# Altium schematic symbol library Schlib1.SchLib: 52 symbols (part 2 of 2)
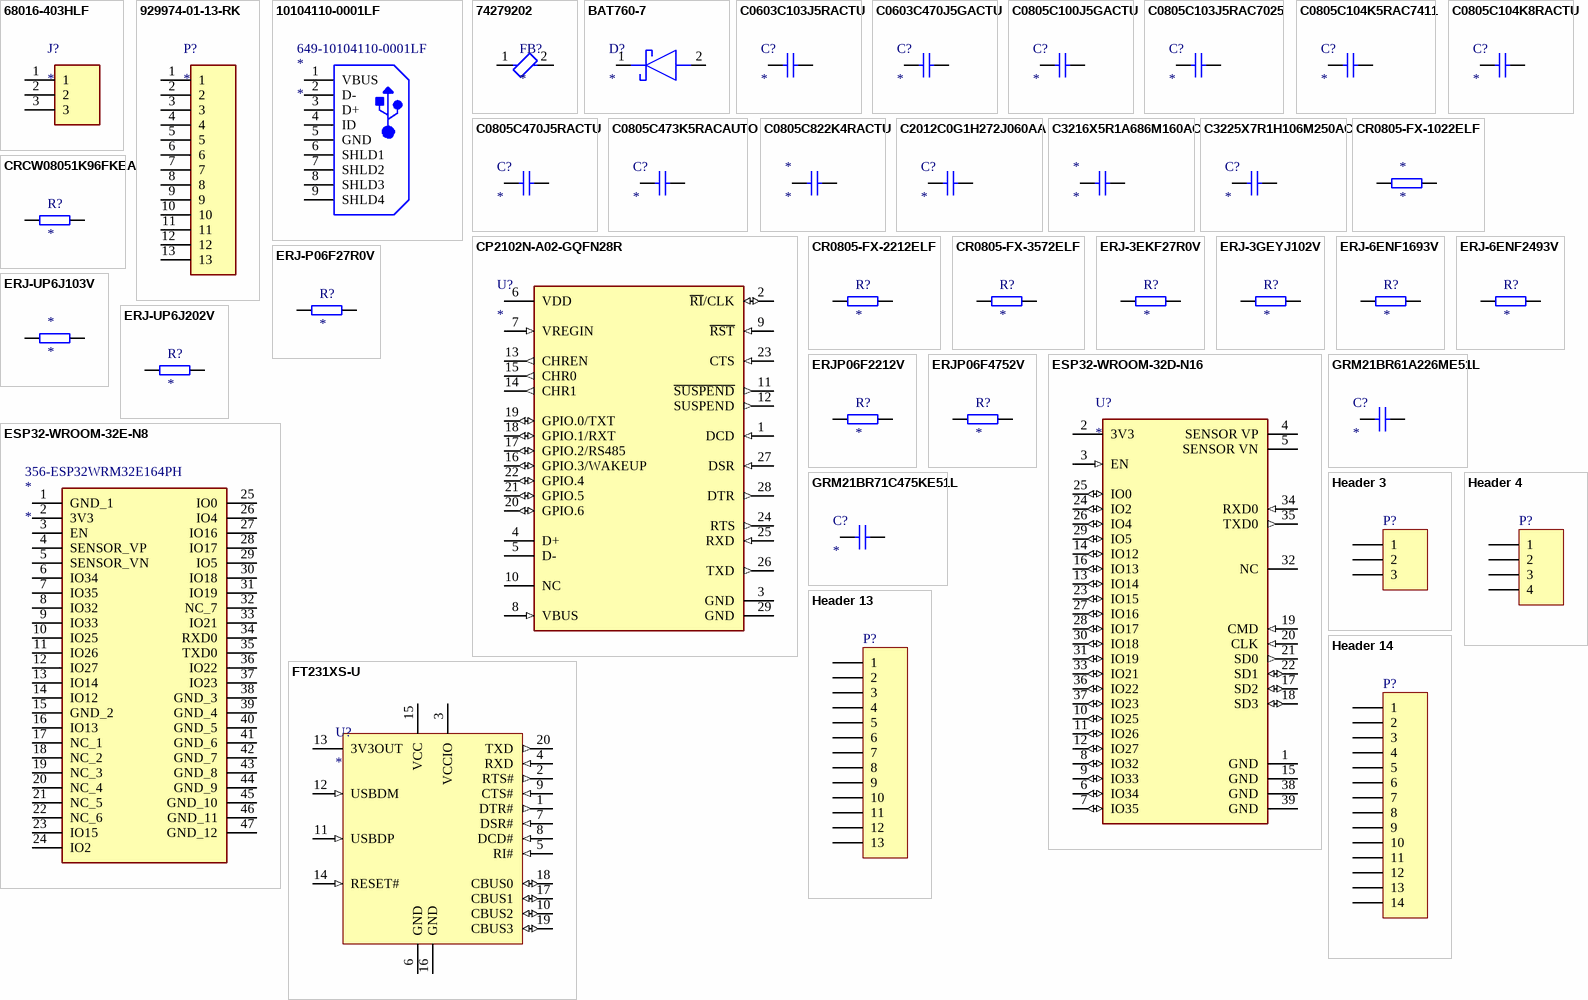
[diagram p2: symbols 68016-403HLF to Header 14]

## ERJ-6ENF2493V
designator R?
Res Thick Film 0805 249K Ohm 1% 1/8W ±100ppm/°C Molded SMD Punched Carrier T/R; Manufacturer: Panasonic; Manufacturer Part Number: ERJ-6ENF2493V; Resistance: 249kR; Voltage Rating: 150V; Power Rating: 125mW; Supplier 1: Mouser; RoHS: Yes; Category: Chip SMD Resistors; Stock 1: 22124; Pricing 1: 1=0,11000, 10=0,08300, 50=0,08300, 100=0,03200, 1000=0,01400, 10000=0,01000 (USD); Mount: Surface Mount; Case/Package: 0805; Contact Plating: Tin; Case Code (Imperial): 0805; Case Code (Metric): 2012; Min Operating Temperature: -55°C; Max Operating Temperature: 155°C; Tolerance: 1%; Resistor Type: Thick Film; Temperature Coefficient: 100ppm/°C; Packaging: Tape and Reel; Package Quantity: 5000; Number of Terminations: 2; Termination: SMD/SMT; Max Power Dissipation: 125mW; Voltage Rating (DC): 150V; Series: ERJ; Resistance Tolerance: 1%; Construction: Rectangular; Technology: THICK FILM; Length: 2mm; Width: 1.2mm; Height: 0.6mm; Depth: 1.25mm; Radiation Hardening: No; REACH SVHC: Unknown; Military Standard: Not; Lead Free: Lead Free; RoHS Compliant: Yes; ComponentLink1URL: https://datasheet.ciiva.com/11821/0900766b80f80784-11821592.pdf?src-supplier=RSComponents; ComponentLink1Description: https://datasheet.ciiva.com/11821/0900766b80f80784-11821592.pdf?src-supplier=RSComponents; ComponentLink2URL: https://datasheet.ciiva.com/16770/70260748-16770245.pdf?src-supplier=Allied+Electronics; ComponentLink2Description: https://datasheet.ciiva.com/16770/70260748-16770245.pdf?src-supplier=Allied+Electronics; ComponentLink3URL: https://datasheet.ciiva.com/30160/aoa0000ce2-30160949.pdf?src-supplier=Onlinecomponents.com; ComponentLink3Description: https://datasheet.ciiva.com/30160/aoa0000ce2-30160949.pdf?src-supplier=Onlinecomponents.com; ComponentLink4URL: https://datasheet.ciiva.com/43460/426256-43460070.pdf?src-supplier=Farnell; ComponentLink4Description: https://datasheet.ciiva.com/43460/426256-43460070.pdf?src-supplier=Farnell; ComponentLink5URL: https://datasheet.ciiva.com/9183/aoa0000ce2-9183882.pdf?src-supplier=Avnet; ComponentLink5Description: https://datasheet.ciiva.com/9183/aoa0000ce2-9183882.pdf?src-supplier=Avnet; ComponentLink6URL: https://datasheet.ciiva.com/46377/426256-46377786.pdf?src-supplier=Element14; ComponentLink6Description: https://datasheet.ciiva.com/46377/426256-46377786.pdf?src-supplier=Element14; ComponentLink7URL: https://datasheet.ciiva.com/28692/1678782-28692523.pdf?src-supplier=Element14; ComponentLink7Description: https://datasheet.ciiva.com/28692/1678782-28692523.pdf?src-supplier=Element14; ComponentLink8URL: https://datasheet.ciiva.com/28594/1678782-28594733.pdf?src-supplier=Element14; ComponentLink8Description: https://datasheet.ciiva.com/28594/1678782-28594733.pdf?src-supplier=Element14; ComponentLink9URL: https://datasheet.ciiva.com/29927/aoa0000ce2-29927535.pdf?src-supplier=Avnet; ComponentLink9Description: https://datasheet.ciiva.com/29927/aoa0000ce2-29927535.pdf?src-supplier=Avnet; Supplier Part Number 1: 667-ERJ-6ENF2493V
footprint RESC2013X70X40LL20T20 (Chip Resistor, 2-Leads, Body 2.00x1.25mm, IPC High Density)
footprint RESC2013X70X40ML20T20 (Chip Resistor, 2-Leads, Body 2.00x1.25mm, IPC Low Density)
footprint RESC2013X70X40NL20T20 (Chip Resistor, 2-Leads, Body 2.00x1.25mm, IPC Medium Density)
pins: 1, 2

## ERJ-P06F27R0V
designator R?
Res Thick Film 0805 27 Ohm 1% 0.25W ±300ppm/°C Molded SMD Punched Carrier T/R; Manufacturer: Panasonic; Manufacturer Part Number: ERJ-P06F27R0V; Resistance: 27R; Power Rating: 500mW; Voltage Rating: 150V; Supplier 1: Mouser; RoHS: Yes; Category: Chip SMD Resistors; Stock 1: 25086; Pricing 1: 1=0,20000, 10=0,16900, 50=0,16900, 100=0,06700, 1000=0,02800, 10000=0,02300 (USD); Mount: Surface Mount; Case/Package: 0805; Number of Pins: 2; Contact Plating: Tin; Case Code (Imperial): 0805; Case Code (Metric): 2012; Weight: 0.000194oz; Min Operating Temperature: -55°C; Max Operating Temperature: 155°C; Tolerance: 1%; Resistor Type: Thick Film; Temperature Coefficient: 300ppm/°C; Packaging: Tape and Reel; Termination: SMD/SMT; Voltage Rating (DC): 150V; Length: 2mm; Width: 1.2mm; Height: 0.6mm; Depth: 1.25mm; Radiation Hardening: No; REACH SVHC: No SVHC; Military Standard: Not; RoHS Compliant: Yes; ComponentLink1URL: https://datasheet.ciiva.com/11810/0900766b812cb812-11810836.pdf?src-supplier=RSComponents; ComponentLink1Description: https://datasheet.ciiva.com/11810/0900766b812cb812-11810836.pdf?src-supplier=RSComponents; ComponentLink2URL: https://datasheet.ciiva.com/48426/erjp-series-eng-tds-48426807.pdf?src-supplier=Distrelec; ComponentLink2Description: https://datasheet.ciiva.com/48426/erjp-series-eng-tds-48426807.pdf?src-supplier=Distrelec; ComponentLink3URL: https://datasheet.ciiva.com/5915/1801181-5915438.pdf?src-supplier=Farnell; ComponentLink3Description: https://datasheet.ciiva.com/5915/1801181-5915438.pdf?src-supplier=Farnell; ComponentLink4URL: https://datasheet.ciiva.com/7891/1801181-7891423.pdf?src-supplier=Element14; ComponentLink4Description: https://datasheet.ciiva.com/7891/1801181-7891423.pdf?src-supplier=Element14; ComponentLink5URL: https://datasheet.ciiva.com/5915/1801181-5915437.pdf?src-supplier=Farnell; ComponentLink5Description: https://datasheet.ciiva.com/5915/1801181-5915437.pdf?src-supplier=Farnell; ComponentLink6URL: https://datasheet.ciiva.com/24125/aoa0000ce4-64075-24125050.pdf?src-supplier=Mouser; ComponentLink6Description: https://datasheet.ciiva.com/24125/aoa0000ce4-64075-24125050.pdf?src-supplier=Mouser; ComponentLink7URL: https://datasheet.ciiva.com/9297/aoa0000ce4-9297918.pdf?src-supplier=Avnet; ComponentLink7Description: https://datasheet.ciiva.com/9297/aoa0000ce4-9297918.pdf?src-supplier=Avnet; Supplier Part Number 1: 667-ERJ-P06F27R0V
footprint RES_ERJP06F27R0V
pins: 1, 2

## ERJ-UP6J103V
designator *
Res 10K Ohm 5% 1/2W 0805; Manufacturer: Panasonic; Manufacturer Part Number: ERJ-UP6J103V; Supplier 1: Mouser; RoHS: No; Category: Chip SMD Resistors; Stock 1: 46150; Pricing 1: 1=0,16000, 10=0,11900, 50=0,11900, 100=0,05800, 1000=0,02500, 10000=0,02100 (USD); Supplier Part Number 1: 667-ERJ-UP6J103V; Resistance: 10K
footprint RESC2012X70N
pins: 1, 2

## ERJ-UP6J202V
designator R?
Res 2K Ohm 5% 1/2W 0805; Manufacturer: Panasonic; Manufacturer Part Number: ERJ-UP6J202V; Supplier 1: Mouser; RoHS: No; Category: Chip SMD Resistors; Stock 1: 17571; Pricing 1: 1=0,16000, 10=0,11900, 50=0,11900, 100=0,05800, 250=0,05200, 500=0,04900, 1000=0,02500, 2500=0,02200, 5000=0,02000, 10000=0,01900 (USD); Supplier Part Number 1: 667-ERJ-UP6J202V; Resistance: 2K
footprint RESC2012X70N
pins: 1, 2

## ERJP06F2212V
designator R?
Res Thick Film 0805 22.1K Ohm 1% 0.25W ±100ppm/°C Molded SMD Punched Carrier T/R; Manufacturer: Panasonic; Manufacturer Part Number: ERJP06F2212V; Resistance: 22.1kR; Power Rating: 500mW; Voltage Rating: 400V; Supplier 1: Mouser; RoHS: Yes; Category: Chip SMD Resistors; Stock 1: 3813; Pricing 1: 1=0,18000, 10=0,15400, 50=0,15400, 100=0,06100, 1000=0,02600, 10000=0,02100 (USD); Mount: Surface Mount; Case/Package: 0805; Case Code (Imperial): 0805; Case Code (Metric): 2012; Weight: 0.000194oz; Min Operating Temperature: -55°C; Max Operating Temperature: 155°C; Tolerance: 1%; Packaging: Tape and Reel; Package Quantity: 5000; Resistor Type: Thick Film; Termination: SMD/SMT; Temperature Coefficient: 100ppm/°C; Voltage Rating (DC): 400V; Length: 2mm; Width: 1.2mm; Height: 0.6mm; Depth: 1.25mm; REACH SVHC: No SVHC; RoHS Compliant: Yes; ComponentLink1URL: https://datasheet.ciiva.com/22729/1801181-22729931.pdf?src-supplier=Farnell; ComponentLink1Description: https://datasheet.ciiva.com/22729/1801181-22729931.pdf?src-supplier=Farnell; ComponentLink2URL: https://datasheet.ciiva.com/22681/1801181-22681386.pdf?src-supplier=Element14; ComponentLink2Description: https://datasheet.ciiva.com/22681/1801181-22681386.pdf?src-supplier=Element14; ComponentLink3URL: https://datasheet.ciiva.com/46382/1801181-46382634.pdf?src-supplier=Element14; ComponentLink3Description: https://datasheet.ciiva.com/46382/1801181-46382634.pdf?src-supplier=Element14; Supplier Part Number 1: 667-ERJ-P06F2212V
footprint ERJP06_(0805)
pins: 1, 2

## ERJP06F4752V
designator R?
Res Thick Film 0805 47.5K Ohm 1% 0.25W ±100ppm/°C Molded SMD Punched Carrier T/R; Manufacturer: Panasonic; Manufacturer Part Number: ERJP06F4752V; Resistance: 47.5kR; Power Rating: 500mW; Voltage Rating: 400V; Supplier 1: Mouser; RoHS: Yes; Category: Chip SMD Resistors; Stock 1: 13819; Pricing 1: 1=0,18000, 10=0,15400, 50=0,15400, 100=0,07200, 1000=0,06600, 10000=0,01900 (USD); Mount: Surface Mount; Case/Package: 0805; Case Code (Imperial): 0805; Case Code (Metric): 2012; Weight: 0.000194oz; Min Operating Temperature: -55°C; Max Operating Temperature: 155°C; Tolerance: 1%; Packaging: Tape and Reel; Package Quantity: 5000; Resistor Type: Thick Film; Termination: SMD/SMT; Temperature Coefficient: 100ppm/°C; Voltage Rating (DC): 400V; Length: 2mm; Width: 1.2mm; Height: 0.6mm; Depth: 1.25mm; REACH SVHC: No SVHC; RoHS Compliant: Yes; ComponentLink1URL: https://datasheet.ciiva.com/22730/1801181-22730139.pdf?src-supplier=Farnell; ComponentLink1Description: https://datasheet.ciiva.com/22730/1801181-22730139.pdf?src-supplier=Farnell; ComponentLink2URL: https://datasheet.ciiva.com/22672/1801181-22672939.pdf?src-supplier=Element14; ComponentLink2Description: https://datasheet.ciiva.com/22672/1801181-22672939.pdf?src-supplier=Element14; ComponentLink3URL: https://datasheet.ciiva.com/46382/1801181-46382887.pdf?src-supplier=Element14; ComponentLink3Description: https://datasheet.ciiva.com/46382/1801181-46382887.pdf?src-supplier=Element14; ComponentLink4URL: https://datasheet.ciiva.com/24205/aoa0000ce4-64075-24205765.pdf?src-supplier=Mouser; ComponentLink4Description: https://datasheet.ciiva.com/24205/aoa0000ce4-64075-24205765.pdf?src-supplier=Mouser; Supplier Part Number 1: 667-ERJ-P06F4752V
footprint ERJP06_(0805)
pins: 1, 2

## ESP32-WROOM-32D-N16
designator U?
Bluetooth and Wi-Fi Module / 2.4GHz to 2.5GHz 2.7V to 3.6V 16MB Flash / 38-Pin SMD Module; Manufacturer: Espressif Systems; Manufacturer Part Number: ESP32-WROOM-32D-N16; Description: Rx Txrx Mod Wifi Trace Ant SMD; Supplier 1: Mouser; RoHS: No; Category: Uncategorized; Stock 1: 6841; Pricing 1: 1=4,65000, 10=4,65000, 50=4,65000, 100=4,65000, 1000=4,65000, 10000=4,65000 (USD); Supplier Part Number 1: 356-ES32WROOM32D16MB
footprint FP-ESP32-WROOM-32D_16MB-MFG
pins: 1 GND (power), 2 3V3 (power), 3 EN (in), 4 SENSOR VP, 5 SENSOR VN, 6 IO34 (io), 7 IO35 (io), 8 IO32 (io), 9 IO33 (io), 10 IO25 (io), 11 IO26 (io), 12 IO27 (io), 13 IO14 (io), 14 IO12 (io), 15 GND (power), 16 IO13 (io), 17 SD2 (io), 18 SD3 (io), 19 CMD (in), 20 CLK (in), 21 SD0 (out), 22 SD1 (io), 23 IO15 (io), 24 IO2 (io), 25 IO0 (io), 26 IO4 (io), 27 IO16 (io), 28 IO17 (io), 29 IO5 (io), 30 IO18 (io), 31 IO19 (io), 32 NC, 33 IO21 (io), 34 RXD0 (in), 35 TXD0 (out), 36 IO22 (io), 37 IO23 (io), 38 GND (power), 39 GND (power)

## ESP32-WROOM-32E-N8
designator *  Supplier Part Number 1: 356-ESP32WRM32E164PH
Manufacturer: Espressif Systems; Manufacturer Part Number: ESP32-WROOM-32E-N8; Supplier 1: Mouser; RoHS: No; Category: Uncategorized; Stock 1: 1560; Pricing 1: 1=3,30000, 10=3,30000, 50=3,30000, 100=3,30000, 1000=3,30000, 10000=3,30000 (USD)
footprint ESP32WROOM32EN8
pins: 1 GND_1, 2 3V3, 3 EN, 4 SENSOR_VP, 5 SENSOR_VN, 6 IO34, 7 IO35, 8 IO32, 9 IO33, 10 IO25, 11 IO26, 12 IO27, 13 IO14, 14 IO12, 15 GND_2, 16 IO13, 17 NC_1, 18 NC_2, 19 NC_3, 20 NC_4, 21 NC_5, 22 NC_6, 23 IO15, 24 IO2, 25 IO0, 26 IO4, 27 IO16, 28 IO17, 29 IO5, 30 IO18, 31 IO19, 32 NC_7, 33 IO21, 34 RXD0, 35 TXD0, 36 IO22, 37 IO23, 38 GND_3, 39 GND_4, 40 GND_5, 41 GND_6, 42 GND_7, 43 GND_8, 44 GND_9, 45 GND_10, 46 GND_11, 47 GND_12

## FT231XS-U
designator U?
FT231XS-U, Usb Controller, 3MBD, Usb 1.1, Usb 2.0, 5 V, 20-PIN SSOP; Manufacturer: FTDI; Number of Channels: 1; Operating Supply Voltage: 5V; Max Supply Voltage: 5.5V; Min Supply Voltage: 2.97V; Data Rate: 3Mbps; ESD Protection: Yes; Supplier 1: Mouser; Manufacturer Part Number: FT231XS-U; RoHS: Yes; Category: Interface ICs; Stock 1: 294; Pricing 1: 1=2,34000, 10=2,34000, 25=2,27000, 50=2,27000, 100=2,27000, 116=2,20000, 1000=1,82000, 10000=1,75000 (USD); Mount: Surface Mount; Case/Package: SSOP; Number of Pins: 20; Min Operating Temperature: -40°C; Max Operating Temperature: 85°C; Packaging: Rail/Tube; Package Quantity: 58; Number of Transceivers: 1; Series: *; Length: 8.74mm; Width: 3.99mm; Height: 1.5mm; Radiation Hardening: No; Lead Free: Lead Free; RoHS Compliant: Yes; ComponentLink1URL: https://datasheet.ciiva.com/48909/70403933-48909079.pdf?src-supplier=Allied+Electronics; ComponentLink1Description: https://datasheet.ciiva.com/48909/70403933-48909079.pdf?src-supplier=Allied+Electronics; ComponentLink2URL: https://datasheet.ciiva.com/15150/getdatasheetpartid-643513-15150507.pdf?src-supplier=Verical; ComponentLink2Description: https://datasheet.ciiva.com/15150/getdatasheetpartid-643513-15150507.pdf?src-supplier=Verical; ComponentLink3URL: https://datasheet.ciiva.com/16379/ds-ft231x-16379279.pdf?src-supplier=Future+Electronics; ComponentLink3Description: https://datasheet.ciiva.com/16379/ds-ft231x-16379279.pdf?src-supplier=Future+Electronics; Supplier Part Number 1: 895-FT231XS-U
footprint SSOP-20_L (SOP, 20-Leads, Body 8.6x3.9mm, Pitch 0.635mm, IPC High Density)
footprint SSOP-20_M (SOP, 20-Leads, Body 8.6x3.9mm, Pitch 0.635mm, IPC Low Density)
footprint SSOP-20_N (SOP, 20-Leads, Body 8.6x3.9mm, Pitch 0.635mm, IPC Medium Density)
pins: 1 DTR# (out) "Data Terminal Ready Control Output / Handshake Signal.", 2 RTS# (out) "Request to Send Control Output / Handshake Signal.", 3 VCCIO (power) "1V8 -3V3 supply for the IO cells.", 4 RXD (in) "Receiving Asynchronous Data Input.", 5 RI# (in) "Ring Indicator input for remote wake up.", 6 GND (power) "0V Ground input.", 7 DSR# (in) "Data Set Ready Control Input / Handshake Signal.", 8 DCD# (in) "Data Carrier Detect Control Input.", 9 CTS# (in) "Clear To Send Control Input / Handshake Signal.", 10 CBUS2 (io) "Configurable CBUS I/O Pin. Function of this pin is configured in the device MTP memory. The default configuration is TXLED#.", 11 USBDP (in) "USB Data Signal Plus.", 12 USBDM (in) "USB Data Signal Minus.", 13 3V3OUT (power) "3V3 output at 50mA. May be used to power VCCIO. When VCC is 3V3, pin 13 is an input pin.", 14 RESET# (in) "Reset input (active low).", 15 VCC (power) "5 V (or 3V3) supply to IC.", 16 GND (power) "0V Ground input.", 17 CBUS1 (io) "Configurable CBUS I/O Pin. Function of this pin is configured in the device MTP memory. The default configuration is RXLED#.", 18 CBUS0 (io) "Configurable CBUS I/O Pin. Function of this pin is configured in the device MTP memory. The default configuration is TXDEN.", 19 CBUS3 (io) "Configurable CBUS I/O Pin. Function of this pin is configured in the device MTP memory. The default configuration is SLEEP#.", 20 TXD (out) "Transmit Asynchronous Data Output."

## GRM21BR61A226ME51L
designator C?
贴片电容（MLCC） 22µF ±20% 10V X5R 0805; Manufacturer: Murata; Manufacturer Part Number: GRM21BR61A226ME51L; Capacitance: 22uF; Supplier 1: Mouser; RoHS: Yes; Category: Ceramic Capacitors; Stock 1: 1508057; Pricing 1: 1=0,28000, 10=0,19200, 50=0,19200, 100=0,10900, 500=0,07700, 1000=0,06800, 3000=0,06300, 6000=0,05900, 10000=0,05900 (USD); Mount: Surface Mount; Case/Package: 0805; Case Code (Metric): 2012; Case Code (Imperial): 0805; Weight: 0.000335oz; Min Operating Temperature: -55°C; Max Operating Temperature: 85°C; Tolerance: 20%; Dielectric: X5R; Packaging: Tape and Reel; Voltage Rating: 10V; Termination: SMD/SMT; Voltage Rating (DC): 10V; Package Quantity: 3000; Length: 2mm; Width: 0.049inch; Height: 1.25mm; Thickness: 0.055inch; Depth: 1.25mm; Radiation Hardening: No; REACH SVHC: No SVHC; Lead Free: Lead Free; RoHS Compliant: Yes; ComponentLink1URL: http://www.farnell.com/datasheets/1955716.pdf?src-supplier=Farnell; ComponentLink1Description: http://www.farnell.com/datasheets/1955716.pdf?src-supplier=Farnell; ComponentLink2URL: http://www.mouser.com/ds/2/281/c02e-2905.pdf?src-supplier=Mouser; ComponentLink2Description: http://www.mouser.com/ds/2/281/c02e-2905.pdf?src-supplier=Mouser; ComponentLink3URL: http://www.farnell.com/datasheets/1955716.pdf?src-supplier=Newark; ComponentLink3Description: http://www.farnell.com/datasheets/1955716.pdf?src-supplier=Newark; ComponentLink4URL: http://www.farnell.com/datasheets/1955716.pdf?src-supplier=Element14; ComponentLink4Description: http://www.farnell.com/datasheets/1955716.pdf?src-supplier=Element14; ComponentLink5URL: http://search.murata.co.jp/Ceramy/image/img/A01X/G101/ENG/GRM21BR61A226ME51-01.pdf?src-supplier=Digi-Key; ComponentLink5Description: http://search.murata.co.jp/Ceramy/image/img/A01X/G101/ENG/GRM21BR61A226ME51-01.pdf?src-supplier=Digi-Key; ComponentLink6URL: http://psearch.en.murata.com/capacitor/product/GRM21BR61A226ME51%23.html?src-supplier=Avnet; ComponentLink6Description: http://psearch.en.murata.com/capacitor/product/GRM21BR61A226ME51%23.html?src-supplier=Avnet; Supplier Part Number 1: 81-GRM21BR61A226ME1L
footprint FP-GRM21B-0_15-IPC_A
footprint FP-GRM21B-0_15-IPC_B
footprint FP-GRM21B-0_15-IPC_C
footprint FP-GRM21B-0_15-MFG
pins: 1, 2

## GRM21BR71C475KE51L
designator C?
Cap Ceramic 4.7uF 16V X7R 10% SMD 0805 125°C Embossed Plastic T/R; Manufacturer: Murata; Manufacturer Part Number: GRM21BR71C475KE51L; Supplier 1: Mouser; RoHS: Yes; Category: Ceramic Capacitors; Stock 1: 388295; Pricing 1: 1=0,19000, 10=0,13400, 50=0,13400, 100=0,06400, 500=0,04500, 1000=0,03700, 3000=0,03500, 6000=0,03300, 10000=0,03300 (USD); Case/Package: 0805; Capacitance: 4.7uF; Tolerance: 10%; Dielectric: X7R; Voltage Rating (DC): 16V; Length: 2mm; Width: 1.25mm; Thickness: 1.25mm; RoHS Compliant: Yes; ComponentLink1URL: http://www.farnell.com/datasheets/2189142.pdf?src-supplier=Farnell; ComponentLink1Description: http://www.farnell.com/datasheets/2189142.pdf?src-supplier=Farnell; ComponentLink2URL: http://search.murata.co.jp/Ceramy/image/img/A01X/G101/ENG/GRM21BR71C475KE51-01.pdf?src-supplier=Digi-Key; ComponentLink2Description: http://search.murata.co.jp/Ceramy/image/img/A01X/G101/ENG/GRM21BR71C475KE51-01.pdf?src-supplier=Digi-Key; Supplier Part Number 1: 81-GRM21BR71C475KE1L
footprint FP-GRM21B-0_15-IPC_A
footprint FP-GRM21B-0_15-IPC_B
footprint FP-GRM21B-0_15-IPC_C
footprint FP-GRM21B-0_15-MFG
pins: 1, 2

## Header 3
designator P?
Header, 3-Pin; LatestRevisionDate: 17-Jul-2002; LatestRevisionNote: Re-released for DXP Platform.; Publisher: Altium Limited
footprint HDR1X3 (Connector; Header; 3 Position)
pins: 1, 2, 3

## Header 4
designator P?
Header, 4-Pin; LatestRevisionDate: 17-Jul-2002; LatestRevisionNote: Re-released for DXP Platform.; Publisher: Altium Limited
footprint HDR1X4 (Connector; Header; 4 Position)
pins: 1, 2, 3, 4

## Header 13
designator P?
Header, 13-Pin; LatestRevisionDate: 17-Jul-2002; LatestRevisionNote: Re-released for DXP Platform.; Publisher: Altium Limited
footprint HDR1X13 (Connector; Header; 13 Position)
pins: 1, 2, 3, 4, 5, 6, 7, 8, 9, 10, 11, 12, 13

## Header 14
designator P?
Header, 14-Pin; LatestRevisionDate: 17-Jul-2002; LatestRevisionNote: Re-released for DXP Platform.; Publisher: Altium Limited
footprint HDR1X14 (Connector; Header; 14 Position)
pins: 1, 2, 3, 4, 5, 6, 7, 8, 9, 10, 11, 12, 13, 14

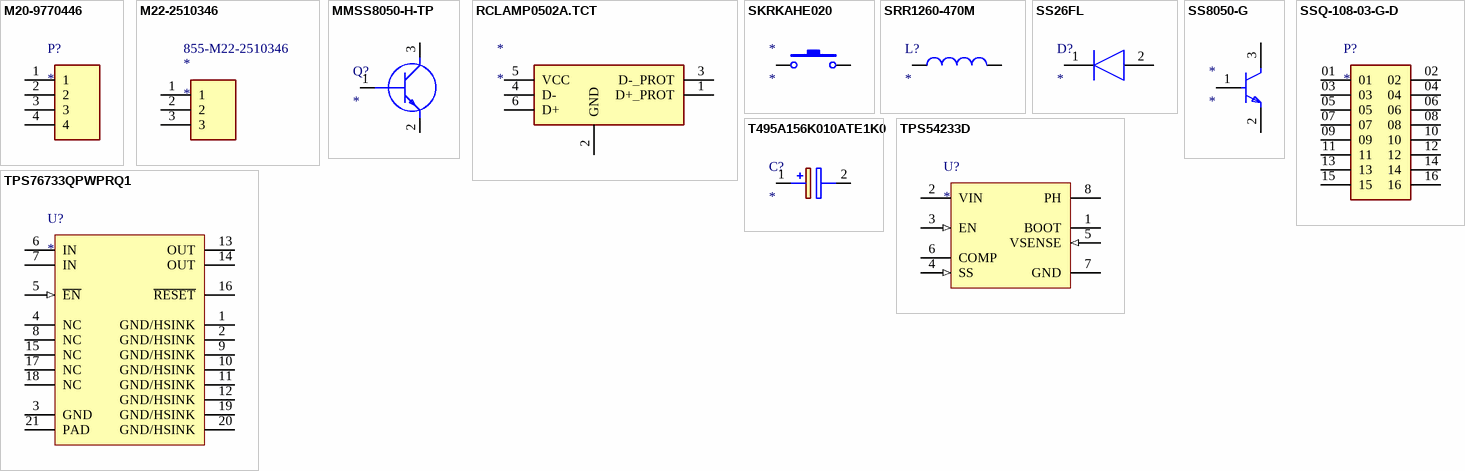
[diagram p1: symbols M20-9770446 to TPS76733QPWPRQ1]

## M20-9770446
designator P?
04 SIL VERT PIN HDR; Manufacturer: Harwin; Manufacturer Part Number: M20-9770446; Number of Contacts: 4; Gender: Male; Current Rating: 3A; Voltage Rating: 750V; Connector Type: Male Pin; Contact Resistance: 30mR; Pitch: 2.54mm; Supplier 1: Mouser; RoHS: Yes; Category: Headers and Wire Housings; Stock 1: 20888; Pricing 1: 1=0,20000, 10=0,15300, 50=0,15300, 100=0,12500, 500=0,11300, 1000=0,09100, 2000=0,08100, 10000=0,07300, 25000=0,06800, 50000=0,06600 (USD); Mount: Through Hole; Case/Package: SIL; Housing Color: Black; Contact Plating: Tin; Color: Black; Contact Material: Brass; Housing Material: Nylon; Min Operating Temperature: -40°C; Max Operating Temperature: 105°C; Termination: Solder; Number of Rows: 1; Orientation: Straight; Number of Positions: 4; Package Quantity: 1000; Packaging: Bulk; Max Current Rating: 3A; Length: 10.16mm; Contact Mating Length: 0.228inch; Depth: 2.54mm; ComponentLink1URL: https://datasheet.ciiva.com/6832/m20-977-6832936.pdf?src-supplier=Digi-Key; ComponentLink1Description: https://datasheet.ciiva.com/6832/m20-977-6832936.pdf?src-supplier=Digi-Key; Supplier Part Number 1: 855-M20-9770446
footprint HDRV4W64P0X254_1X4_1016X254X834P
pins: 1, 2, 3, 4

## M22-2510346
designator *  Supplier Part Number 1: 855-M22-2510346
2.00mm (0.079") Pitch SIL Vertical 2.4mm PC Tail Pin Header, 3.5mm mating pin height, tin, 3 contacts; Manufacturer: Harwin; Manufacturer Part Number: M22-2510346; Number of Contacts: 3; Max Current Rating: 1A; Contact Resistance: 30mR; Voltage Rating: 650V; Gender: Male; Connector Type: Male Pin; Pitch: 2mm; Supplier 1: Mouser; RoHS: Yes; Category: Headers and Wire Housings; Stock 1: 3158; Pricing 1: 1=0,24000, 10=0,18300, 50=0,18300, 100=0,14900, 1000=0,10900, 10000=0,08800 (USD); Mount: Through Hole; Case/Package: SIL; Contact Plating: Tin; Contact Material: Bronze; Color: Black; Housing Color: Black; Housing Material: Nylon; Min Operating Temperature: -55°C; Max Operating Temperature: 105°C; Number of Rows: 1; Termination: Solder; Current Rating: 1A; Package Quantity: 1000; Packaging: Bulk; Number of Positions: 3; Orientation: Straight; Series: M22; Contact Type: Male Pin; Length: 6mm; Contact Mating Length: 0.138inch; Depth: 2mm; RoHS Compliant: Yes; ComponentLink1URL: http://www.mouser.com/ds/2/181/M22-251-1134335.pdf?src-supplier=Mouser; ComponentLink1Description: http://www.mouser.com/ds/2/181/M22-251-1134335.pdf?src-supplier=Mouser; ComponentLink2URL: http://cdn.harwin.com/pdfs/M22-251.pdf?src-supplier=Digi-Key; ComponentLink2Description: http://cdn.harwin.com/pdfs/M22-251.pdf?src-supplier=Digi-Key; ComponentLink3URL: http://www.harwin.com/include/downloads/pdfs/2010PAGE109.PDF?src-supplier=Avnet; ComponentLink3Description: http://www.harwin.com/include/downloads/pdfs/2010PAGE109.PDF?src-supplier=Avnet; ComponentLink4URL: https://cdn.harwin.com/pdfs/M22-251.pdf?src-supplier=Digi-Key; ComponentLink4Description: https://cdn.harwin.com/pdfs/M22-251.pdf?src-supplier=Digi-Key
footprint HDRV3W50P0X200_1X3_600X200X525P
pins: 1, 2, 3

## MMSS8050-H-TP
designator Q?
NPN Ic=1.5A Vceo=25V hfe=120~350 fT=100MHz; Manufacturer: MCC; Manufacturer Part Number: MMSS8050-H-TP; hFE Min: 120; Max Power Dissipation: 625mW; Collector Emitter Voltage (VCEO): 500mV; Collector Base Voltage (VCBO): 40V; Emitter Base Voltage (VEBO): 5V; Max Collector Current: 1.5A; Collector Emitter Breakdown Voltage: 25V; Transition Frequency: 100MHz; Element Configuration: Single; Supplier 1: Mouser; RoHS: Yes; Category: BJTs; Stock 1: 426; Pricing 1: 1=0,21000, 10=0,17100, 50=0,17100, 100=0,09100, 500=0,06000, 1000=0,04100, 3000=0,03100, 10000=0,03100 (USD); Mount: Surface Mount; Case/Package: SOT-23; Number of Pins: 3; Min Operating Temperature: -55°C; Max Operating Temperature: 150°C; Packaging: Tape and Reel; Package Quantity: 3000; Polarity: NPN; Collector Emitter Saturation Voltage: 500mV; Max Breakdown Voltage: 25V; Gain Bandwidth Product: 100MHz; Collector-emitter Voltage-Max: 500mV; Series: -; Lead Free: Lead Free; RoHS Compliant: Yes; ComponentLink1URL: https://datasheet.ciiva.com/16291/mmss8050-255048-16291447.pdf?src-supplier=Mouser; ComponentLink1Description: https://datasheet.ciiva.com/16291/mmss8050-255048-16291447.pdf?src-supplier=Mouser; ComponentLink2URL: https://datasheet.ciiva.com/972/mmss8050sot-23-972894.pdf?src-supplier=Digi-Key; ComponentLink2Description: https://datasheet.ciiva.com/972/mmss8050sot-23-972894.pdf?src-supplier=Digi-Key; ComponentLink3URL: https://datasheet.ciiva.com/972/mmss8050sot-23-972895.pdf?src-supplier=Digi-Key; ComponentLink3Description: https://datasheet.ciiva.com/972/mmss8050sot-23-972895.pdf?src-supplier=Digi-Key; ComponentLink4URL: https://datasheet.ciiva.com/972/mmss8050sot-23-972893.pdf?src-supplier=Digi-Key; ComponentLink4Description: https://datasheet.ciiva.com/972/mmss8050sot-23-972893.pdf?src-supplier=Digi-Key; Supplier Part Number 1: 833-MMSS8050-H-TP
footprint SI2305TP
pins: 1 B, 2 E, 3 C

## RCLAMP0502A.TCT
designator *
TVS二极管 5V IPPM=3A 50W 单向; Manufacturer: Semtech; Manufacturer Part Number: RCLAMP0502A.TCT; Direction: Unidirectional; Capacitance: 0.9pF; Number of Channels: 2; Reverse Breakdown Voltage: 6V; Number of Elements: 1; Clamping Voltage: 18V; Power Line Protection: Yes; Peak Pulse Current: 3A; Test Current: 1mA; Max Reverse Leakage Current: 1uA; Element Configuration: Single; Supplier 1: Mouser; RoHS: Yes; Category: TVS Diodes; Stock 1: 213169; Pricing 1: 1=0,91000, 10=0,79900, 50=0,79900, 100=0,61300, 1000=0,38800, 10000=0,35000 (USD); Mount: Surface Mount; Case/Package: SC; Number of Pins: 6; Min Operating Temperature: -55°C; Max Operating Temperature: 125°C; Packaging: Tape and Reel; Number of Bidirectional Channels: 2; Reverse Standoff Voltage: 5V; Min Breakdown Voltage: 6V; Peak Pulse Power: 50W; Polarity: Unidirectional; Max Breakdown Voltage: 6V; ESD Protection: Yes; Max Power Dissipation: 50W; Leakage Current: 1uA; Current: 3A; Voltage: 5V; Series: RailClamp®; Clamping Voltage-Max: 18V; Length: 1.6mm; Width: 1.2mm; Height: 0.6mm; Radiation Hardening: No; Lead Free: Lead Free; RoHS Compliant: Yes; ComponentLink1URL: https://datasheet.ciiva.com/17052/0900766b80d896e8-17052765.pdf?src-supplier=Allied+Electronics; ComponentLink1Description: https://datasheet.ciiva.com/17052/0900766b80d896e8-17052765.pdf?src-supplier=Allied+Electronics; ComponentLink2URL: https://datasheet.ciiva.com/16208/rclamp0502a-16208898.pdf?src-supplier=Future+Electronics; ComponentLink2Description: https://datasheet.ciiva.com/16208/rclamp0502a-16208898.pdf?src-supplier=Future+Electronics; ComponentLink3URL: https://datasheet.ciiva.com/18065/getdatasheetpartid-185280-18065939.pdf?src-supplier=Verical; ComponentLink3Description: https://datasheet.ciiva.com/18065/getdatasheetpartid-185280-18065939.pdf?src-supplier=Verical; ComponentLink4URL: https://datasheet.ciiva.com/338/rclamp0502a-338509.pdf?src-supplier=Digi-Key; ComponentLink4Description: https://datasheet.ciiva.com/338/rclamp0502a-338509.pdf?src-supplier=Digi-Key; ComponentLink5URL: https://datasheet.ciiva.com/338/rclamp0502a-338510.pdf?src-supplier=Digi-Key; ComponentLink5Description: https://datasheet.ciiva.com/338/rclamp0502a-338510.pdf?src-supplier=Digi-Key; ComponentLink6URL: https://datasheet.ciiva.com/338/rclamp0502a-338508.pdf?src-supplier=Digi-Key; ComponentLink6Description: https://datasheet.ciiva.com/338/rclamp0502a-338508.pdf?src-supplier=Digi-Key; Supplier Part Number 1: 947-RCLAMP0502A.TCT
footprint SOTFL50P162X60-6N
pins: 1 D+_PROT, 2 GND, 3 D-_PROT, 4 D-, 5 VCC, 6 D+

## SKRKAHE020
designator *
Switch Tactile N.O. SPST Round Button Gull Wing 0.05A 12VDC 0.98N SMD T/R; Manufacturer: Alps Electric; Manufacturer Part Number: SKRKAHE020; Supplier 1: Mouser; RoHS: Yes; Category: Tactile Switches; Stock 1: 28067; Pricing 1: 1=0,76000, 10=0,67100, 50=0,60600, 100=0,57700, 1000=0,46700, 10000=0,45000 (USD); RoHS Compliant: Yes; Supplier Part Number 1: 688-SKRKAHE010
footprint SKRKAEE020
pins: 1, 2

## SRR1260-470M
designator L?
Inductor Power Shielded Wirewound 47uH 20% 100KHz 22Q-Factor Ferrite 2.6A 86mOhm DCR T/R; Manufacturer: Bourns; Manufacturer Part Number: SRR1260-470M; Material: Steel; Self Resonant Frequency: 7.63MHz; Saturation Current: 2.5A; DC Resistance (DCR): 86mR; Q Factor: 22; Supplier 1: Mouser; RoHS: Yes; Category: Fixed Inductors; Stock 1: 4692; Pricing 1: 1=1,36000, 10=1,02000, 50=1,02000, 100=0,91300, 1000=0,69900, 10000=0,52900 (USD); Mount: Surface Mount; Case/Package: 1260; Core Material: Ferrite; Min Operating Temperature: -40°C; Max Operating Temperature: 125°C; Tolerance: 20%; Inductance: 47uH; Max DC Current: 2.6A; Series: SRR1260; Inductance Tolerance: 20%; Packaging: Tape and Reel; Package Quantity: 600; Current Rating: 2.6A; Shielding: Shielded; Test Frequency: 100kHz; Termination: SMD/SMT; RMS Current (Irms): 2.6A; Resistor Type: Wirewound; DC Current: 2.6A; Frequency: 7.63MHz; Resistance: 86MR; Sample Rate (Hz): 100kHz; Length: 12.5mm; Width: 12.5mm; Height: 6mm; Depth: 12.8mm; Height - Seated (Max): 0.256inch; Radiation Hardening: No; RoHS Compliant: Yes; REACH SVHC: No SVHC; Military Standard: Not; ComponentLink1URL: https://datasheet.ciiva.com/11799/0900766b80defded-11799944.pdf?src-supplier=RSComponents; ComponentLink1Description: https://datasheet.ciiva.com/11799/0900766b80defded-11799944.pdf?src-supplier=RSComponents; ComponentLink2URL: https://datasheet.ciiva.com/1062/srr1260-1062578.pdf?src-supplier=Digi-Key; ComponentLink2Description: https://datasheet.ciiva.com/1062/srr1260-1062578.pdf?src-supplier=Digi-Key; ComponentLink3URL: https://datasheet.ciiva.com/1062/srr1260-1062579.pdf?src-supplier=Digi-Key; ComponentLink3Description: https://datasheet.ciiva.com/1062/srr1260-1062579.pdf?src-supplier=Digi-Key; ComponentLink4URL: https://datasheet.ciiva.com/1062/srr1260-1062580.pdf?src-supplier=Digi-Key; ComponentLink4Description: https://datasheet.ciiva.com/1062/srr1260-1062580.pdf?src-supplier=Digi-Key; ComponentLink5URL: https://datasheet.ciiva.com/8517/srr1260-8517158.pdf?src-supplier=Avnet; ComponentLink5Description: https://datasheet.ciiva.com/8517/srr1260-8517158.pdf?src-supplier=Avnet; ComponentLink6URL: https://datasheet.ciiva.com/17111/70277056-17111735.pdf?src-supplier=Allied+Electronics; ComponentLink6Description: https://datasheet.ciiva.com/17111/70277056-17111735.pdf?src-supplier=Allied+Electronics; ComponentLink7URL: https://datasheet.ciiva.com/46384/1430852-46384136.pdf?src-supplier=Element14; ComponentLink7Description: https://datasheet.ciiva.com/46384/1430852-46384136.pdf?src-supplier=Element14; ComponentLink8URL: https://datasheet.ciiva.com/6161/1430852-6161177.pdf?src-supplier=Farnell; ComponentLink8Description: https://datasheet.ciiva.com/6161/1430852-6161177.pdf?src-supplier=Farnell; ComponentLink9URL: https://datasheet.ciiva.com/7849/1430852-7849786.pdf?src-supplier=Element14; ComponentLink9Description: https://datasheet.ciiva.com/7849/1430852-7849786.pdf?src-supplier=Element14; ComponentLink10URL: https://datasheet.ciiva.com/48684/srr1260-48684894.pdf?src-supplier=Avnet; ComponentLink10Description: https://datasheet.ciiva.com/48684/srr1260-48684894.pdf?src-supplier=Avnet; ComponentLink11URL: https://datasheet.ciiva.com/7307/1914016-7307759.pdf?src-supplier=Newark; ComponentLink11Description: https://datasheet.ciiva.com/7307/1914016-7307759.pdf?src-supplier=Newark; ComponentLink12URL: https://datasheet.ciiva.com/48690/001056651-da-01-en-mag-abge-l-ind-srr1260-470m-47uh-2-6a-48690779.pdf?src-supplier=Conrad; ComponentLink12Description: https://datasheet.ciiva.com/48690/001056651-da-01-en-mag-abge-l-ind-srr1260-470m-47uh-2-6a-48690779.pdf?src-supplier=Conrad; Supplier Part Number 1: 652-SRR1260-470M
footprint SRR1260470M
pins: 1, 2

## SS26FL
designator D?
Diode Schottky Barrier Rectifier 60V 2A 2-Pin SOD-123F T/R; Manufacturer: ON Semiconductor / Fairchild; Manufacturer Part Number: SS26FL; Reverse Recovery Time: 8.26ns; Element Configuration: Single; Max Forward Surge Current (Ifsm): 50A; Supplier 1: Mouser; RoHS: Yes; Category: Rectifier Diodes; Stock 1: 8320; Pricing 1: 1=0,38000, 10=0,31100, 50=0,31100, 100=0,21200, 1000=0,11900, 10000=0,09500 (USD); Mount: Surface Mount; Case/Package: SOD; Weight: 0.0276g; Packaging: Tape and Reel; Average Rectified Current: 2A; Max Repetitive Reverse Voltage (Vrrm): 60V; Max Reverse Voltage (DC): 60V; RoHS Compliant: Yes; ComponentLink1URL: http://www.farnell.com/datasheets/2552652.pdf?src-supplier=Farnell; ComponentLink1Description: http://www.farnell.com/datasheets/2552652.pdf?src-supplier=Farnell; ComponentLink2URL: http://www.farnell.com/datasheets/2552652.pdf?src-supplier=Element14; ComponentLink2Description: http://www.farnell.com/datasheets/2552652.pdf?src-supplier=Element14; ComponentLink3URL: https://www.fairchildsemi.com/datasheets/SS/SS24FL.pdf?src-supplier=Digi-Key; ComponentLink3Description: https://www.fairchildsemi.com/datasheets/SS/SS24FL.pdf?src-supplier=Digi-Key; ComponentLink4URL: http://www.farnell.com/datasheets/2552652.pdf?src-supplier=Newark; ComponentLink4Description: http://www.farnell.com/datasheets/2552652.pdf?src-supplier=Newark; Supplier Part Number 1: 512-SS26FL
footprint SODFL3617X108N
pins: 1 K, 2 A

## SS8050-G
designator *
Trans Gp Bjt NPN 25V 1.5A 300MW 3-PIN SOT-23 T/r; Manufacturer: Comchip; Manufacturer Part Number: SS8050-G; Collector Emitter Voltage (VCEO): 400mV; Transition Frequency: 100MHz; Supplier 1: Mouser; RoHS: Yes; Stock 1: 22728; Pricing 1: 1=0,31000, 10=0,20400, 50=0,20400, 100=0,09200, 1000=0,05800, 3000=0,04400, 9000=0,03700, 10000=0,03700, 24000=0,03500, 45000=0,03300, 99000=0,02800 (USD); Mount: Surface Mount; Case/Package: TO-236-3; Packaging: Tape and Reel; Max Collector Current: 1.5A; Max Power Dissipation: 300mW; Collector Emitter Breakdown Voltage: 25V; Max Breakdown Voltage: 25V; ComponentLink1URL: http://www.comchiptech.com/admin/files/product/SS8050-G RevA181526.pdf?src-supplier=Digi-Key; ComponentLink1Description: http://www.comchiptech.com/admin/files/product/SS8050-G RevA181526.pdf?src-supplier=Digi-Key; ComponentLink2URL: http://www.comchiptech.com/cms/UserFiles/SS8050-G%20RevA181526.pdf?src-supplier=Digi-Key; ComponentLink2Description: http://www.comchiptech.com/cms/UserFiles/SS8050-G%20RevA181526.pdf?src-supplier=Digi-Key; Supplier Part Number 1: 750-SS8050-G
footprint FP-SS8050-G-IPC_A
footprint FP-SS8050-G-IPC_B
footprint FP-SS8050-G-IPC_C
footprint FP-SS8050-G-MFG
pins: 1 B, 2 E, 3 C

## SSQ-108-03-G-D
designator P?
Headers & Wire Housings Tiger Buy Socket Strip with Square Tails, 0.100 Pitch; Manufacturer: Samtec; Manufacturer Part Number: SSQ-108-03-G-D; Number of Contacts: 16; Gender: Female; Connector Type: Receptacle; Max Current Rating: 7.6A; Contact Resistance: 10mR; Max Voltage Rating (AC): 550V; Pitch: 2.54mm; Row Spacing: 0.1inch; Supplier 1: Mouser; RoHS: Yes; Category: Headers and Wire Housings; Stock 1: 211; Pricing 1: 1=4,53000, 10=4,34000, 50=4,34000, 100=3,62000, 500=3,07000, 1000=2,62000, 2500=2,40000, 5000=2,35000, 10000=2,29000 (USD); Mount: Through Hole; Contact Plating: Gold; Contact Material: Bronze; Color: Black; Housing Color: Black; Housing Material: Polymer; Min Operating Temperature: -55°C; Max Operating Temperature: 125°C; Number of Rows: 2; Termination: Solder; Packaging: Bulk; Number of Positions: 16; Orientation: Straight; Series: SSQ; Contact Type: Female Socket; Length: 20.83mm; Width: 4.95mm; Depth: 4.95mm; Lead Free: Lead Free; RoHS Compliant: Yes; ComponentLink1URL: https://datasheet.ciiva.com/749/ssq-1xx-xx-xxx-x-xx-xxx-xx-x-mkt-749229.pdf?src-supplier=Digi-Key; ComponentLink1Description: https://datasheet.ciiva.com/749/ssq-1xx-xx-xxx-x-xx-xxx-xx-x-mkt-749229.pdf?src-supplier=Digi-Key; Supplier Part Number 1: 200-SSQ10803GD
footprint SAMTEC_SSQ-108-XX-X-D
pins: 01, 02, 03, 04, 05, 06, 07, 08, 09, 10, 11, 12, 13, 14, 15, 16

## T495A156K010ATE1K0
designator C?
Cap Tant Solid 15uF 10V A CASE 10% (3.2 X 1.6 X 1.6mm) Inward L SMD 3216-18 1 Ohm 125C Automotive T/R; Manufacturer: KEMET; Manufacturer Part Number: T495A156K010ATE1K0; ESR (Equivalent Series Resistance): 1R; Life (Hours): 2000Hour; Supplier 1: Mouser; RoHS: Yes; Category: Tantalum Capacitors; Stock 1: 278; Pricing 1: 1=0,73000, 10=0,59100, 50=0,44700, 100=0,38900, 1000=0,30900, 10000=0,28100 (USD); Mount: Surface Mount; Case/Package: 1206; Case Code (Metric): 3216; Case Code (Imperial): 1206; Min Operating Temperature: -55°C; Max Operating Temperature: 125°C; Package Quantity: 2000; Packaging: Tape and Reel; Capacitance: 15uF; Tolerance: 10%; Voltage Rating: 10V; Features: General Purpose; Length: 0.126inch; Width: 0.063inch; Height - Seated (Max): 0.071inch; RoHS Compliant: Yes; ComponentLink1URL: http://www.kemet.com/docfinder?Partnumber=T495A156K010ATE1K0&src-supplier=Digi-Key; ComponentLink1Description: http://www.kemet.com/docfinder?Partnumber=T495A156K010ATE1K0&src-supplier=Digi-Key; ComponentLink2URL: https://api.kemet.com/component-edge/download/datasheet/T495A156K010ATE1K0.pdf?src-supplier=Digi-Key; ComponentLink2Description: https://api.kemet.com/component-edge/download/datasheet/T495A156K010ATE1K0.pdf?src-supplier=Digi-Key; Supplier Part Number 1: 80-T495A156K10ATE1K0
footprint CAPPM3216X180N
pins: 1 +, 2 -

## TPS54233D
designator U?
3.5 to 28V Input, 2A, 300kHz Step-Down Converter with Eco-mode 8-SOIC -40 to 150; Manufacturer: Texas Instruments; Manufacturer Part Number: TPS54233D; Output Voltage: 25V; Number of Outputs: 1; Min Input Voltage: 3.5V; Min Output Voltage: 800mV; Synchronous Rectifier: No; Quiescent Current: 110uA; Output Type: Adjustable; Output Configuration: Positive; Supplier 1: Mouser; RoHS: Yes; Category: Voltage Regulators - Switching; Stock 1: 4197; Pricing 1: 1=2,13000, 10=1,92000, 25=1,81000, 50=1,81000, 100=1,54000, 250=1,44000, 375=1,26000, 1000=1,26000, 1125=1,05000, 10000=1,05000 (USD); Case/Package: D; Number of Pins: 8; Weight: 0.002561oz; Contact Plating: Gold; Min Operating Temperature: -40°C; Max Operating Temperature: 150°C; Packaging: Rail/Tube; Switching Frequency: 300kHz; Output Current: 2A; Package Quantity: 75; Max Output Current: 2A; Max Input Voltage: 28V; Max Output Voltage: 25V; Operating Supply Voltage: 28V; Series: SWIFT™, Eco-Mode™; Length: 4.9mm; Width: 3.91mm; Height: 1.58mm; Radiation Hardening: No; Lead Free: Lead Free; RoHS Compliant: Yes; REACH SVHC: No SVHC; ComponentLink1URL: https://datasheet.ciiva.com/2035/tps54233-2035392.pdf?src-supplier=Digi-Key; ComponentLink1Description: https://datasheet.ciiva.com/2035/tps54233-2035392.pdf?src-supplier=Digi-Key; ComponentLink2URL: https://datasheet.ciiva.com/4118/47079537s8453800n7713-4118932.pdf?src-supplier=Arrow+Electronics; ComponentLink2Description: https://datasheet.ciiva.com/4118/47079537s8453800n7713-4118932.pdf?src-supplier=Arrow+Electronics; Supplier Part Number 1: 595-TPS54233D
footprint D0008A_L (SOIC, 8-Leads, Body 5x4mm, Pitch 1.27mm, IPC High Density)
footprint D0008A_M (SOIC, 8-Leads, Body 5x4mm, Pitch 1.27mm, IPC Low Density)
footprint D0008A_N (SOIC, 8-Leads, Body 5x4mm, Pitch 1.27mm, IPC Medium Density)
pins: 1 BOOT "A 0.1 uF bootstrap capacitor is required between BOOT and PH. If the voltage on this capacitor falls below the minimum requirement, the high-side MOSFET is forced to switch off until the capacitor is refreshed.", 2 VIN (power) "Input supply voltage, 3.5 V to 28 V.", 3 EN (in) "Enable pin. Pull below 1.25V to disable. Float to enable. Programming the input undervoltage lockout with two resistors is recommended.", 4 SS (in) "Slow start pin. An external capacitor connected to this pin sets the output rise time.", 5 VSENSE (in) "Inverting node of the gm error amplifier", 6 COMP "Error amplifier output, and input to the PWM comparator. Connect frequency compensation components to this pin.", 7 GND (power) "Ground.", 8 PH (power) "The source of the internal high-side power MOSFET."

## TPS76733QPWPRQ1
designator U?
Automotive 1-A, 10-V, low-dropout voltage regulator with enable 20-HTSSOP -40 to 125; Manufacturer: Texas Instruments; Manufacturer Part Number: TPS76733QPWPRQ1; Max Power Dissipation: 7.2W; Dropout Voltage: 350mV; Output Current: 1A; Output Voltage: 3.3V; Number of Outputs: 1; Max Input Voltage: 10V; Min Input Voltage: 2.7V; Input Bias Current: 85uA; Polarity: Positive; Quiescent Current: 80uA; Accuracy: 2%; Output Type: Fixed; Supplier 1: Mouser; RoHS: Yes; Category: Voltage Regulators - Linear; Stock 1: 472; Pricing 1: 1=5,02000, 10=4,51000, 50=4,26000, 100=3,70000, 1000=2,75000, 10000=2,75000 (USD); Case/Package: HTSSOP; Number of Pins: 20; Min Operating Temperature: -40°C; Max Operating Temperature: 125°C; Packaging: Tape and Reel; Package Quantity: 1; Max Output Current: 1A; Number of Regulators: 1; Power Dissipation: 7.2W; Min Output Voltage: 3.3V; Output Voltage Accuracy: 2%; Max Output Voltage: 3.3V; Series: Automotive, AEC-Q100; Radiation Hardening: No; REACH SVHC: Unknown; Lead Free: Lead Free; RoHS Compliant: Yes; ComponentLink1URL: https://datasheet.ciiva.com/2046/tps76715-q1-2046224.pdf?src-supplier=Digi-Key; ComponentLink1Description: https://datasheet.ciiva.com/2046/tps76715-q1-2046224.pdf?src-supplier=Digi-Key; ComponentLink2URL: https://datasheet.ciiva.com/14275/tps76733-q1-14275667.pdf?src-supplier=Avnet; ComponentLink2Description: https://datasheet.ciiva.com/14275/tps76733-q1-14275667.pdf?src-supplier=Avnet; ComponentLink3URL: https://datasheet.ciiva.com/2046/tps76715-q1-2046223.pdf?src-supplier=Digi-Key; ComponentLink3Description: https://datasheet.ciiva.com/2046/tps76715-q1-2046223.pdf?src-supplier=Digi-Key; ComponentLink4URL: https://datasheet.ciiva.com/2046/tps76715-q1-2046222.pdf?src-supplier=Digi-Key; ComponentLink4Description: https://datasheet.ciiva.com/2046/tps76715-q1-2046222.pdf?src-supplier=Digi-Key; Supplier Part Number 1: 595-TPS76733QPWPRQ1
footprint PWP0020L_L (SOP, 20-Leads, Body 6.6x4.5mm, Pitch 0.65mm, Thermal Pad 3.38x2.4mm, IPC High Density)
footprint PWP0020L_M (SOP, 20-Leads, Body 6.6x4.5mm, Pitch 0.65mm, Thermal Pad 3.38x2.4mm, IPC Low Density)
footprint PWP0020L_N (SOP, 20-Leads, Body 6.6x4.5mm, Pitch 0.65mm, Thermal Pad 3.38x2.4mm, IPC Medium Density)
pins: 1 GND/HSINK (power) "Ground/heatsink", 2 GND/HSINK (power) "Ground/heatsink", 3 GND (power) "Regulator ground", 4 NC "No connect", 5 ~{EN} (in) "Enable", 6 IN (power) "Input voltage", 7 IN (power) "Input voltage", 8 NC "No connect", 9 GND/HSINK (power) "Ground/heatsink", 10 GND/HSINK (power) "Ground/heatsink", 11 GND/HSINK (power) "Ground/heatsink", 12 GND/HSINK (power) "Ground/heatsink", 13 OUT (power) "Regulated output voltage", 14 OUT (power) "Regulated output voltage", 15 NC "No connect", 16 ~{RESET} (hiz) "Reset", 17 NC "No connect", 18 NC "No connect", 19 GND/HSINK (power) "Ground/heatsink", 20 GND/HSINK (power) "Ground/heatsink", 21 PAD "Exposed Thermal Pad"